# Altium schematic symbol library new_base_sensors.SchLib: 13 symbols
Pins are listed as number, name and electrical type; pins without a type are passive.

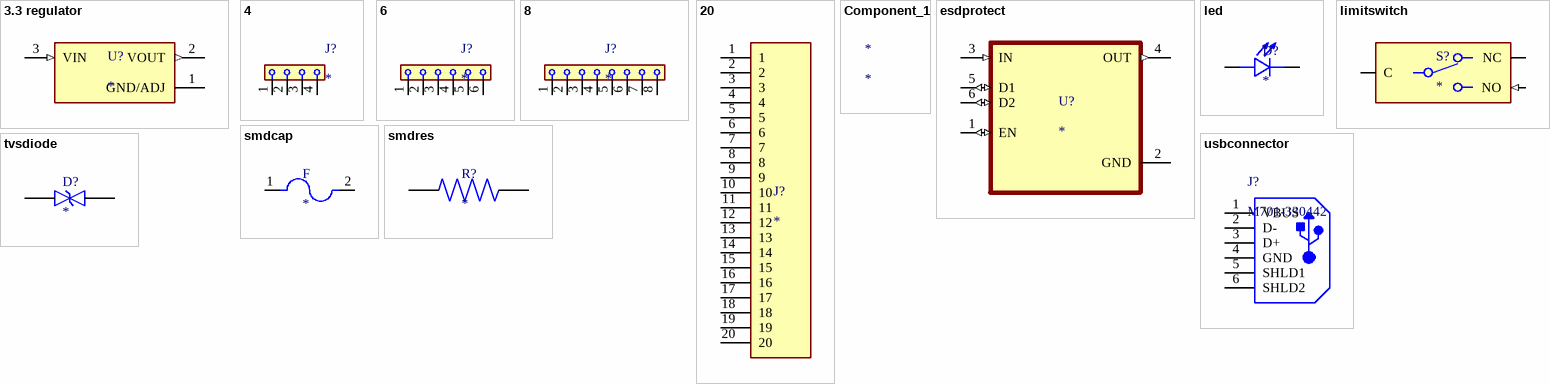
[diagram p0: symbols 3.3 regulator to usbconnector]

## 3.3 regulator
designator U?
LDO Voltage Regulators 800MA LDO LINEAR REG; MF: ams AG; MP: AMS1117-3.3; SnapEDA_Link: https://www.snapeda.com/parts/AMS1117-3.3/ams/view-part/?ref=snap; Package: SOT-223 Seeed Technology; Value: *; Check_prices: https://www.snapeda.com/parts/AMS1117-3.3/ams/view-part/?ref=eda
footprint SOT229P700X180-4N
footprint 3.3regultor
pins: 1 GND/ADJ (power), 2 VOUT (out), 3 VIN (in)

## 4
designator J?
Female header Temperature range: -40 ... +125 Â°C Colour: Black Connector Design: Single Row / Straight Connector Termination: THT Contact material: Gold-Plated Copper Gender of contacts: Female Housing Material: Polybutylene Terephthalate (PBT) Pitch: 2; MF: WÃ¼rth Elektronik; MP: 62001011821; SnapEDA_Link: https://www.snapeda.com/parts/62001011821/W%25C3%25BCrth+Elektronik+Midcom/view-part/?ref=snap; Package: None; Value: *; Check_prices: https://www.snapeda.com/parts/62001011821/W%25C3%25BCrth+Elektronik+Midcom/view-part/?ref=eda
footprint 62001011821
footprint 4
pins: 1, 2, 3, 4

## 6
designator J?
Female header Temperature range: -40 ... +125 Â°C Colour: Black Connector Design: Single Row / Straight Connector Termination: THT Contact material: Gold-Plated Copper Gender of contacts: Female Housing Material: Polybutylene Terephthalate (PBT) Pitch: 2; MF: WÃ¼rth Elektronik; MP: 62001011821; SnapEDA_Link: https://www.snapeda.com/parts/62001011821/W%25C3%25BCrth+Elektronik+Midcom/view-part/?ref=snap; Package: None; Value: *; Check_prices: https://www.snapeda.com/parts/62001011821/W%25C3%25BCrth+Elektronik+Midcom/view-part/?ref=eda
footprint 62001011821
footprint 6
pins: 1, 2, 3, 4, 5, 6

## 8
designator J?
Female header Temperature range: -40 ... +125 Â°C Colour: Black Connector Design: Single Row / Straight Connector Termination: THT Contact material: Gold-Plated Copper Gender of contacts: Female Housing Material: Polybutylene Terephthalate (PBT) Pitch: 2; MF: WÃ¼rth Elektronik; MP: 62001011821; SnapEDA_Link: https://www.snapeda.com/parts/62001011821/W%25C3%25BCrth+Elektronik+Midcom/view-part/?ref=snap; Package: None; Value: *; Check_prices: https://www.snapeda.com/parts/62001011821/W%25C3%25BCrth+Elektronik+Midcom/view-part/?ref=eda
footprint 62001011821
footprint 8
pins: 1, 2, 3, 4, 5, 6, 7, 8

## 20
designator J?
AMPMODU 20 Position Through-Hole Single Row Straight .100 Inch Header; Product_Type: Connector; Number_of_Positions: 20; MF: TE Connectivity; MP: 2-87224-0; Centerline_Pitch: 2.54 mm[.1 in]; SnapEDA_Link: https://www.snapeda.com/parts/2-87224-0/TE+Connectivity+AMP+Connectors/view-part/?ref=snap; Package: None; Value: *; EU_RoHS_Compliance: Compliant; Check_prices: https://www.snapeda.com/parts/2-87224-0/TE+Connectivity+AMP+Connectors/view-part/?ref=eda
footprint TE_2-87224-0
footprint 20
pins: 1, 2, 3, 4, 5, 6, 7, 8, 9, 10, 11, 12, 13, 14, 15, 16, 17, 18, 19, 20

## Component_1
designator *

## esdprotect
designator U?
Current-limit switch and D+/Dâ€“ ESD protection for USB Host; MF: Texas Instruments; MP: TPD3S044DBVR; SnapEDA_Link: https://www.snapeda.com/parts/TPD3S044DBVR/Texas+Instruments/view-part/?ref=snap; Package: SOT-23-6 Texas Instruments; Value: *; Check_prices: https://www.snapeda.com/parts/TPD3S044DBVR/Texas+Instruments/view-part/?ref=eda
footprint SOT95P280X145-6N
footprint esdprotect
pins: 1 EN (io), 2 GND (power), 3 IN (in), 4 OUT (out), 5 D1 (io), 6 D2 (io)

## led
designator D?
Green 1.6 x 0.8 x 0.75 mm (0603) 120 Âº 180 mcd Water Clear SMT LED; MF: Kingbright; MP: APT1608VGC/A; SnapEDA_Link: https://www.snapeda.com/parts/APT1608VGC/A/Kingbright/view-part/?ref=snap; Package: Package; Value: *; Check_prices: https://www.snapeda.com/parts/APT1608VGC/A/Kingbright/view-part/?ref=eda
footprint LED_APT1608VGC_A
footprint led
pins: A, C

## limitswitch
designator S?
Switch Snap Action N.O./N.C. SPDT Long Hinge Lever Solder 5A 250VAC 0.39N Screw Mount; MF: Omron; MP: SS-5GL111; SnapEDA_Link: https://www.snapeda.com/parts/SS-5GL111/Omron/view-part/?ref=snap; Package: None; Value: *; Check_prices: https://www.snapeda.com/parts/SS-5GL111/Omron/view-part/?ref=eda
footprint SS-5GL111
footprint limitswitch
pins: C (io), NC (io), NO (in)

## smdcap
designator F
C1H 20 (0685H9200-01) | 1206 SMT Fuse | Fast Acting | High Current | 20A; MF: Bel Fuse; MP: C1H-20; Value: *; Package: None; Price: None; Availability: Unavailable; SnapEDA_Link: https://www.snapeda.com/parts/C1H-20/Bel%20Fuse/view-part/4619678/?ref=snap
footprint FUSC3215X85N
pins: 1, 2

## smdres
designator R?
RES SMD 470 OHM 1% 1/10W 0603; MF: Panasonic; MP: ERJS03F4700V; SnapEDA_Link: https://www.snapeda.com/parts/ERJS03F4700V/Panasonic/view-part/?ref=snap; Package: 1608-2 Panasonic; Value: *; Check_prices: https://www.snapeda.com/parts/ERJS03F4700V/Panasonic/view-part/?ref=eda
footprint RES_ERJS03F4700V
pins: 1, 2

## tvsdiode
designator D?
59V Clamp 169A (8/20Âµs) Ipp Tvs Diode Through Hole DO-201; MF: STMicroelectronics; MP: 1.5KE33CA; SnapEDA_Link: https://www.snapeda.com/parts/1.5KE33CA/STMicroelectronics/view-part/?ref=snap; Package: DO-201 Littelfuse; Value: *; Check_prices: https://www.snapeda.com/parts/1.5KE33CA/STMicroelectronics/view-part/?ref=eda
footprint DIONAD1592W101L950D530
footprint tvsdiode
pins: 1, 2

## usbconnector
designator J?, comment M701-330442
Single USB 2.0, Receptacle Connecter, B Type, 4 Position Through Hole, -55 to 85 degC, RoHS, Tray; DatasheetVersion: Oct-15; PackageDescription: USB Connecter, 4 Position Through Hole, Length 12.04 mm, Height 16.25 mm, Tail Length 3.1 mm; PackageReference: M701-330442; ComponentLink1Description: Datasheet; ComponentLink1URL: https://cdn.harwin.com/pdfs/M701-330442.pdf
footprint HRWN-M701-330442_V (USB, 4-Leads, Body 12.04x10.6mm, Pitch 2.5mm)
footprint usbconnector (DPAK, 5-Leads, Body 10.65x9.65mm, Pitch 1.7mm, IPC High Density)
pins: 1 VBUS, 2 D-, 3 D+, 4 GND, 5 SHLD1, 6 SHLD2